# EAGLE library part CC1110BOARD (library aobotelhoLibrary)
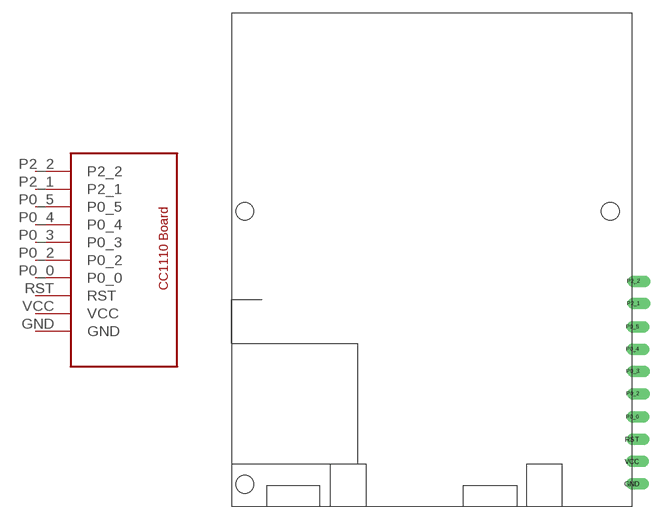
[diagram p0: symbol with the pads of CC1110BOARD; footprint CC1110BOARD]

Designator prefix -

## CC1110BOARD  [CC1110BOARD]
GND  GND
P0_0  P0_0
P0_2  P0_2
P0_3  P0_3
P0_4  P0_4
P0_5  P0_5
P2_1  P2_1
P2_2  P2_2
RST  RST
VCC  VCC

## Footprint CC1110BOARD (pad centres in mm)
drill 0.8 offset: GND 22.606,-25.4; P0_0 22.644,-17.805; P0_2 22.682,-15.164; P0_3 22.682,-12.624; P0_4 22.657,-10.109; P0_5 22.657,-7.569; P2_1 22.758,-4.928; P2_2 22.758,-2.388; RST 22.644,-20.345; VCC 22.606,-22.86